# EAGLE library part WS2801 (library bytewerk-driver)
SPi to RGB PWM converter - 3x 8bit pwm - not really SPI !
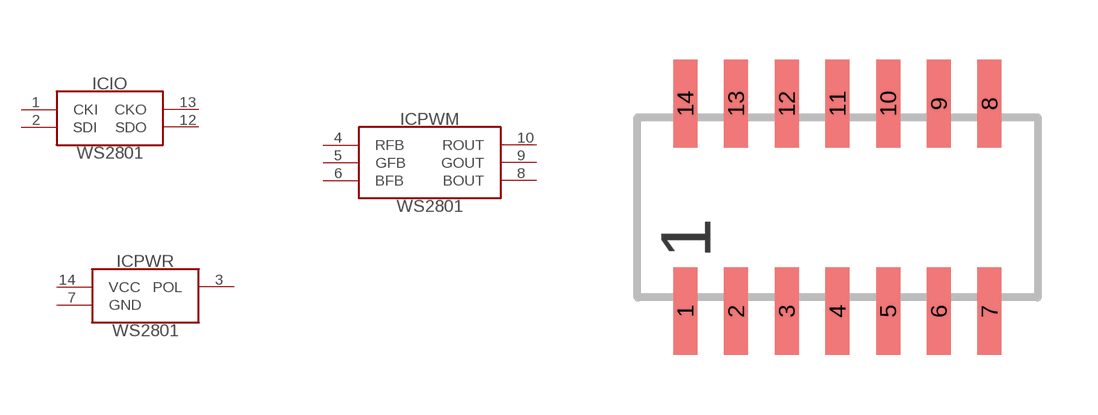
[diagram p0: symbol with the pads of SOP14; footprint SOP14]

Designator prefix IC; gates IO=WS2801-IO PWM=WS2801-PWM PWR=WS2801-PWR

## WS2801  [SOP14]
1  IO:CKI  in
2  IO:SDI  in
3  PWR:POL  in
4  PWM:RFB  pas
5  PWM:GFB  pas
6  PWM:BFB  pas
7  PWR:GND  pwr
8  PWM:BOUT  pas
9  PWM:GOUT  pas
10  PWM:ROUT  pas
12  IO:SDO  out
13  IO:CKO  out
14  PWR:VCC  pwr

## Footprint SOP14 (pad centres in mm)
SMALL OUTLINE PACKAGE
smd 0.6 x 2.2: 1 -3.81,-2.6; 2 -2.54,-2.6; 3 -1.27,-2.6; 4 0,-2.6; 5 1.27,-2.6; 6 2.54,-2.6; 7 3.81,-2.6; 8 3.81,2.6; 9 2.54,2.6; 10 1.27,2.6; 11 0,2.6; 12 -1.27,2.6; 13 -2.54,2.6; 14 -3.81,2.6